# Altium footprint library ESD_Suppressors.PcbLib: 17 footprints (part 1 of 2)
Each footprint in its own frame and in the unit in brackets; x right, y up, seen from the top. Pads: shape width x height; smd on the part's side, far side on the other; paste and mask are expansions set on the pad; w line width, h text height; cw(c..) or ccw(c..) is an arc to the next point about the centre after c.
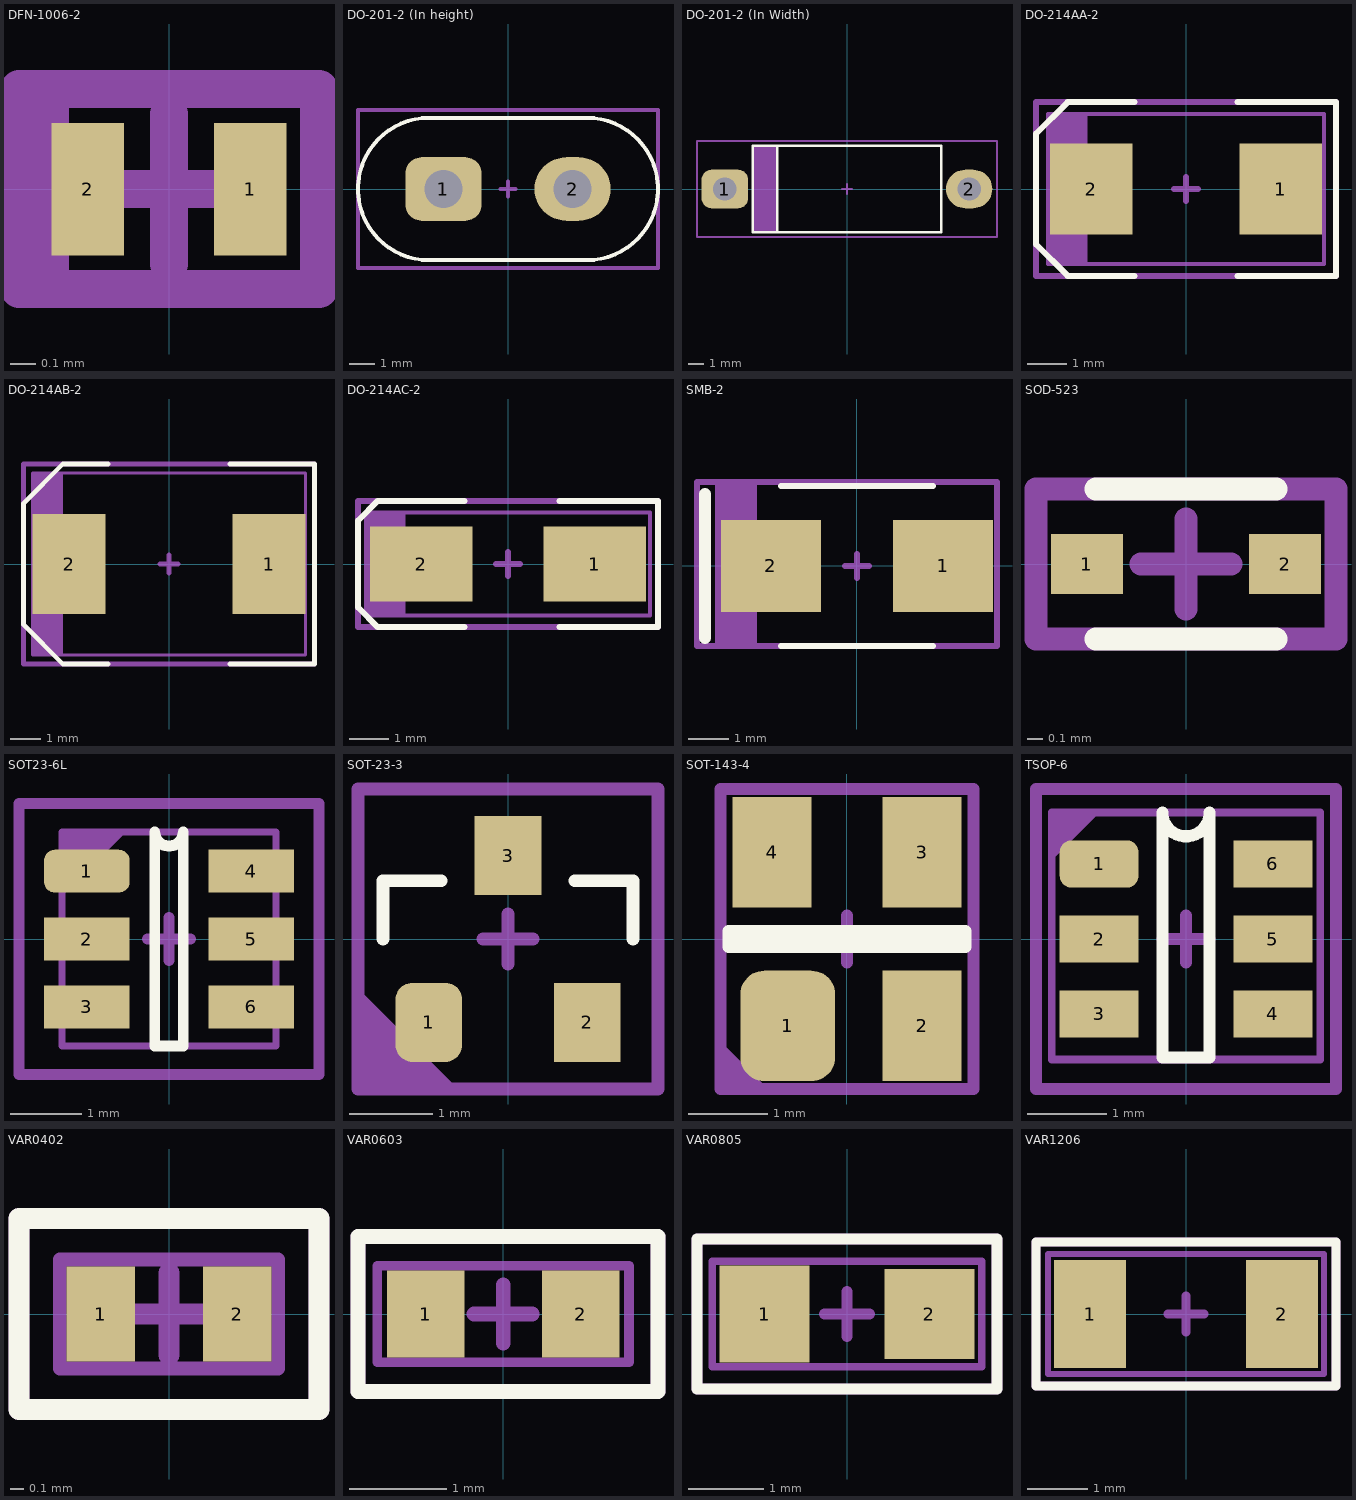
[diagram p0: the footprints below, top view; thin cyan lines are the x and y axes]

## DFN-1006-2 [mm]
pads (2):
  rect 0.29x0.53 smd mask+0.05: 1(0.325,0) 2(-0.325,0)
Top Assembly:
  rectangle: -0.6,-0.4 -0.4,0.4
  lines w0.1: -0.6,-0.4 -0.6,0.4 0.6,0.4 0.6,-0.4 -0.6,-0.4
  text "'.Designator'" at -4.532,-0.333 h0.8
Top Courtyard:
  lines w0.153: -0.3,0 0,0 ; 0,-0.3 0,0 ; 0,0.3 0,0 ; 0.3,0 0,0 ; -0.6,-0.4 -0.6,0.4 0.6,0.4 0.6,-0.4 -0.6,-0.4
3D body "PESD3V3V1BLYL.STEP": height 0.5, standoff 0, extent -0.493,-0.292 0.493,0.292

## DO-201-2 (In height) [mm]
pads (2):
  rrect50% 3x2.5 hole 1.5: 1(-2.54,0)
  oval 3x2.5 hole 1.5: 2(2.54,0)
Top Overlay:
  lines w0.153: -3.1,-2.8 cw(c-3.1,0) -3.1,2.8 3.1,2.8 cw(c3.1,0) 3.1,-2.8 -3.1,-2.8
Top Assembly:
  lines w0.1: -3.1,-2.8 cw(c-3.1,0) -3.1,2.8 3.1,2.8 cw(c3.1,0) 3.1,-2.8 -3.1,-2.8
  text "'.Designator'" at -4.532,-0.333 h0.8
Top Courtyard:
  lines w0.153: -0.3,0 0,0 ; 0,-0.3 0,0 ; 0,0.3 0,0 ; 0.3,0 0,0 ; -5.9,-3.1 -5.9,3.1 5.9,3.1 5.9,-3.1 -5.9,-3.1
3D body "User Library-DO-201AV-Vertical_200.STEP": height 15.69, standoff -3, extent -5.34,-2.797 3.195,2.797

## DO-201-2 (In Width) [mm]
pads (2):
  rrect50% 3x2.5 hole 1.5: 1(-7.9,0)
  oval 3x2.5 hole 1.5: 2(7.9,0)
Top Overlay:
  lines w0.153: -4.5,-2.8 -4.5,2.8 ; -6.1,-2.8 -6.1,2.8 6.1,2.8 6.1,-2.8 -6.1,-2.8
Top Assembly:
  rectangle: -6.1,-2.8 -4.5,2.8
  lines w0.1: -6.1,-2.8 -6.1,2.8 6.1,2.8 6.1,-2.8 -6.1,-2.8
  text "'.Designator'" at -4.532,-0.333 h0.8
Top Courtyard:
  lines w0.153: -0.3,0 0,0 ; 0,-0.3 0,0 ; 0,0.3 0,0 ; 0.3,0 0,0 ; -9.7,-3.1 -9.7,3.1 9.7,3.1 9.7,-3.1 -9.7,-3.1
3D body "1.5KE150CA.STEP": height 5.6, standoff -14.67, extent -8.435,-2.8 8.435,2.8

## DO-214AA-2 [mm]
pads (2):
  rect 2.1x2.3 smd mask+0.05: 1(2.4,0) 2(-2.4,0)
Top Overlay:
  lines w0.153: -1.3,-2.2 -3,-2.2 -3.8,-1.4 -3.8,1.4 -3,2.2 -1.3,2.2 ; 1.3,-2.2 3.8,-2.2 3.8,2.2 1.3,2.2
Top Assembly:
  rectangle: -3.5,-1.9 -2.5,1.9
  lines w0.1: -3.5,-1.9 3.5,-1.9 3.5,1.9 -3.5,1.9 -3.5,-1.9
  text "'.Designator'" at -4.532,-0.333 h0.8
Top Courtyard:
  lines w0.153: -0.3,0 0.3,0 ; 0,-0.3 0,0.3 ; -3.8,-2.2 3.8,-2.2 3.8,2.2 -3.8,2.2 -3.8,-2.2
3D body "User Library-DO-214AA_SMB.step": height 2.2, standoff -0.05, extent -2.65,-1.85 2.65,1.85

## DO-214AB-2 [mm]
pads (2):
  rect 2.4x3.3 smd mask+0.05: 1(3.3,0) 2(-3.3,0)
Top Overlay:
  lines w0.153: -2,-3.3 -3.5,-3.3 -4.8,-2 -4.8,2 -3.5,3.3 -2,3.3 ; 2,-3.3 4.8,-3.3 4.8,3.3 2,3.3
Top Assembly:
  rectangle: -4.5,-3 -3.5,3
  lines w0.1: -4.5,-3 -4.5,3 4.5,3 4.5,-3 -4.5,-3
  text "'.Designator'" at -4.532,-0.333 h0.8
Top Courtyard:
  lines w0.153: -0.3,0 0.3,0 ; 0,-0.3 0,0.3 ; -4.8,-3.3 -4.8,3.3 4.8,3.3 4.8,-3.3 -4.8,-3.3
3D body "User Library-SMCJ17A-13-F.step": height 2.21, standoff -0.05, extent -3.751,-2.98 3.751,2.98

## DO-214AC-2 [mm]
pads (2):
  rect 2.6x1.9 smd: 1(2.2,0) 2(-2.2,0)
Top Overlay:
  lines w0.153: -1.1,-1.6 -3.3,-1.6 -3.8,-1.1 -3.8,1.1 -3.3,1.6 -1.1,1.6 ; 1.3,-1.6 3.8,-1.6 3.8,1.6 1.3,1.6
Top Assembly:
  rectangle: -3.6,-1.3 -2.6,1.3
  lines w0.1: -3.6,-1.3 3.6,-1.3 3.6,1.3 -3.6,1.3 -3.6,-1.3
  text "'.Designator'" at -4.532,-0.333 h0.8
Top Courtyard:
  lines w0.153: -0.3,0 0.3,0 ; 0,-0.3 0,0.3 ; -3.8,-1.6 -3.8,1.6 3.8,1.6 3.8,-1.6 -3.8,-1.6
3D body "User Library-DO-214AC SMA.STEP": height 2.4, standoff 0, extent -2.6,-1.3 2.6,1.3

## SMB-2 [mm]
pads (2):
  rect 2.5x2.3 smd mask+0.05: 1(2.15,0) 2(-2.15,0)
Top Overlay:
  lines w0.153: -1.9,-2 1.9,-2 ; -1.9,2 1.9,2
  lines w0.3: -3.8,-1.8 -3.8,1.8
Top Assembly:
  rectangle: -3.5,-2 -2.5,2.1
  lines w0.1: -3.5,-2 3.5,-2 3.5,2.1 -3.5,2.1 -3.5,-2
  text "'.Designator'" at -4.532,-0.333 h0.8
Top Courtyard:
  lines w0.153: -0.3,0 0,0 ; 0,-0.3 0,0 ; 0,0.3 0,0 ; 0.3,0 0,0 ; -4,-2 3.5,-2 3.5,2.1 -4,2.1 -4,-2
3D body "SMB (DO-214AA).step": height 2.45, standoff 0.03, extent -2.75,-1.95 2.75,1.95

## SOD-523 [mm]
pads (2):
  rect 0.48x0.4 smd mask+0.05: 1(-0.66,0) 2(0.66,0)
Top Overlay:
  lines w0.153: -0.6,-0.5 0.6,-0.5 ; -0.6,0.5 0.6,0.5
Top Assembly:
  lines w0.1: -1,-0.5 -1,0.5 1,0.5 1,-0.5 -1,-0.5
  text "'.Designator'" at -4.532,-0.333 h0.8
Top Courtyard:
  lines w0.153: -0.3,0 0,0 ; 0,-0.3 0,0 ; 0,0.3 0,0 ; 0.3,0 0,0 ; -1,-0.5 -1,0.5 1,0.5 1,-0.5 -1,-0.5
3D body "User Library-SOD523-1.STEP": height 0.7, standoff 0, extent -0.8,-0.399 0.8,0.399

## SOT23-6L [mm]
pads (6):
  rrect50% 1.2x0.6 smd: 1(-1.15,0.95)
  rect 1.2x0.6 smd: 2(-1.15,0) 3(-1.15,-0.95) 4(1.15,0.95) 5(1.15,0) 6(1.15,-0.95)
Top Overlay:
  lines w0.153: -0.2,-1.5 0.2,-1.5 0.2,1.5 cw(c0,1.5) -0.2,1.5 -0.2,-1.5
Top Assembly:
  region: -1.5,1.5 -1.5,0.6 -0.6,1.5
  lines w0.1: -1.5,-1.5 -1.5,1.5 1.5,1.5 1.5,-1.5 -1.5,-1.5
  text "'.Designator'" at -4.532,-0.333 h0.8
Top Courtyard:
  lines w0.153: -0.3,0 0.3,0 ; 0,-0.3 0,0.3 ; -2.1,-1.9 -2.1,1.9 2.1,1.9 2.1,-1.9 -2.1,-1.9
3D body "User Library-SOT-23-6L.step": height 1.4, standoff 0, extent -1.5,-1.524 1.5,1.524

## SOT-23-3 [mm]
pads (3):
  rrect50% 0.8x0.95 smd: 1(-0.95,-1)
  rect 0.8x0.95 smd: 2(0.95,-1) 3(0,1)
Top Overlay:
  lines w0.153: -1.5,0 -1.5,0.7 -0.8,0.7 ; 0.8,0.7 1.5,0.7 1.5,0
Top Assembly:
  region: -1.8,-1.8 -1.8,-0.6 -0.6,-1.8
  lines w0.1: -1.8,-1.8 1.8,-1.8 1.8,1.8 -1.8,1.8 -1.8,-1.8
  text "'.Designator'" at -4.532,-0.333 h0.8
Top Courtyard:
  lines w0.153: -0.3,0 0.3,0 ; 0,-0.3 0,0.3 ; -1.8,-1.8 1.8,-1.8 1.8,1.8 -1.8,1.8 -1.8,-1.8
3D body "CircuitWorks-SOT-23.STEP": height 1.05, standoff -0.05, extent -1.5,-1.25 1.5,1.25

## SOT-143-4 [mm]
pads (4):
  rrect50% 1.2x1.4 smd mask+0.05: 1(-0.75,-1.1)
  rect 1x1.4 smd mask+0.05: 2(0.95,-1.1) 3(0.95,1.1) 4(-0.95,1.1)
Top Overlay:
  lines w0.153: -1.5,0 1.5,0 ; -1.5,-0.1 1.5,-0.1 1.5,0.1 -1.5,0.1 -1.5,-0.1
Top Assembly:
  region: -1.6,-1.3 -1,-1.9 -1.6,-1.9
  lines w0.1: -1.6,-1.9 -1.6,1.9 1.6,1.9 1.6,-1.9 -1.6,-1.9
  text "'.Designator'" at -4.532,-0.333 h0.8
Top Courtyard:
  lines w0.153: -0.3,0 0.3,0 ; 0,-0.3 0,0.3 ; -1.6,-1.9 -1.6,1.9 1.6,1.9 1.6,-1.9 -1.6,-1.9
3D body "SP0503BAHTG--3DModel-STEP-56544.STEP": height 1.22, standoff 0, extent -1.46,-1.185 1.46,1.185

## TSOP-6 [mm]
pads (6):
  rrect50% 1x0.6 smd: 1(-1.1,0.95)
  rect 1x0.6 smd: 2(-1.1,0) 3(-1.1,-0.95) 4(1.1,-0.95) 5(1.1,0) 6(1.1,0.95)
Top Overlay:
  lines w0.153: -0.3,-1.5 -0.3,1.6 ccw(c0,1.6) 0.3,1.6 0.3,-1.5 -0.3,-1.5
Top Assembly:
  region: -1.7,1.6 -1.7,1 -1.1,1.6
  lines w0.1: -1.7,-1.525 1.7,-1.525 1.7,1.6 -1.7,1.6 -1.7,-1.525
  text "'.Designator'" at -4.532,-0.333 h0.8
Top Courtyard:
  lines w0.153: -0.3,0 0,0 ; 0,-0.3 0,0 ; 0,0.3 0,0 ; 0.3,0 0,0 ; -1.9,-1.9 -1.9,1.9 1.9,1.9 1.9,-1.9 -1.9,-1.9
3D body "6-TSOP.step": height 1.1, standoff 0, extent -1.412,-1.55 1.412,1.55

## VAR0402 [mm]
pads (2):
  rect 0.5x0.7 smd: 1(-0.5,0) 2(0.5,0)
Top Overlay:
  lines w0.153: -1.1,-0.7 1.1,-0.7 1.1,0.7 -1.1,0.7 -1.1,-0.7
Top Assembly:
  lines w0.1: -0.8,-0.4 -0.8,0.4 0.8,0.4 0.8,-0.4 -0.8,-0.4
  text "'.Designator'" at -4.532,-0.333 h0.8
Top Courtyard:
  lines w0.153: -0.3,0 0.3,0 ; 0,-0.3 0,0.3 ; -1.1,-0.7 -1.1,0.7 1.1,0.7 1.1,-0.7 -1.1,-0.7
3D body "User Library-V0402HD.STEP": height 0.6, standoff 0, extent -0.5,-0.25 0.5,0.25

## VAR0603 [mm]
pads (2):
  rect 0.8x0.9 smd: 1(-0.8,0) 2(0.8,0)
Top Overlay:
  lines w0.153: -1.5,-0.8 -1.5,0.8 1.6,0.8 1.6,-0.8 -1.5,-0.8
Top Assembly:
  lines w0.1: -1.3,-0.5 -1.3,0.5 1.3,0.5 1.3,-0.5 -1.3,-0.5
  text "'.Designator'" at -4.532,-0.333 h0.8
Top Courtyard:
  lines w0.153: -0.3,0 0.3,0 ; 0,-0.3 0,0.3 ; -1.5,-0.8 -1.5,0.8 1.6,0.8 1.6,-0.8 -1.5,-0.8
3D body "User Library-V0603HD.STEP": height 0.9, standoff 0, extent -0.8,-0.4 0.8,0.4

## VAR0805 [mm]
pads (2):
  rect 1.2x1.3 smd: 1(-1.1,0)
  rect 1.2x1.2 smd: 2(1.1,0)
Top Overlay:
  lines w0.153: -2,-1 -2,1 2,1 2,-1 -2,-1
Top Assembly:
  lines w0.1: -1.8,-0.7 1.8,-0.7 1.8,0.7 -1.8,0.7 -1.8,-0.7
  text "'.Designator'" at -4.532,-0.333 h0.8
Top Courtyard:
  lines w0.153: -0.3,0 0.3,0 ; 0,-0.3 0,0.3 ; -2,-1 2,-1 2,1 -2,1 -2,-1
3D body "User Library-V0805HD.STEP": height 1.2, standoff 0, extent -1,-0.625 1,0.625

## VAR1206 [mm]
pads (2):
  rect 1.2x1.8 smd: 1(-1.6,0) 2(1.6,0)
Top Overlay:
  lines w0.153: -2.5,-1.2 2.5,-1.2 2.5,1.2 -2.5,1.2 -2.5,-1.2
Top Assembly:
  lines w0.1: -2.3,-1 2.3,-1 2.3,1 -2.3,1 -2.3,-1
  text "'.Designator'" at -4.532,-0.333 h0.8
Top Courtyard:
  lines w0.153: -0.3,0 0.3,0 ; 0,-0.3 0,0.3 ; -2.5,-1.2 2.5,-1.2 2.5,1.2 -2.5,1.2 -2.5,-1.2
3D body "User Library-V1206HD.STEP": height 1.5, standoff 0, extent -1.6,-0.8 1.6,0.8